# EAGLE library part 610018243021 (library Wuerth_Elektronik_eiCan_Pin_&_Socked_Headers_v1.3)
WR-PHD 2.54mm SMT Dual Socket Header Bottom Entry, 18 Pins
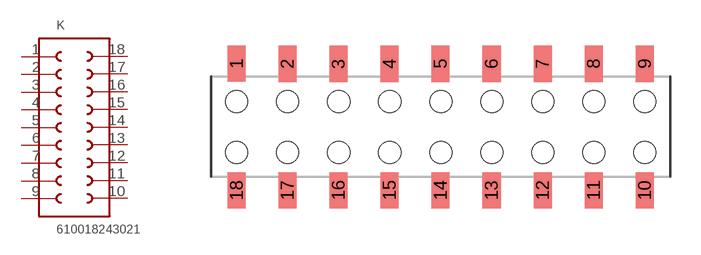
[diagram p223: symbol with the pads of 610018243021; footprint 610018243021]

Designator prefix K

## 610018243021  [610018243021]
1  1  pas
2  2  pas
3  3  pas
4  4  pas
5  5  pas
6  6  pas
7  7  pas
8  8  pas
9  9  pas
10  10  pas
11  11  pas
12  12  pas
13  13  pas
14  14  pas
15  15  pas
16  16  pas
17  17  pas
18  18  pas

## Footprint 610018243021 (pad centres in mm)
WR-PHD 2.54mm SMT Dual Socket Header Bottom Entry, 18 Pins
smd 0.9 x 1.8: 1 -11.43,3.15; 2 -8.9,3.14; 3 -6.36,3.14; 4 -3.82,3.14; 5 -1.28,3.14; 6 1.26,3.14; 7 3.8,3.14; 8 6.34,3.14; 9 8.88,3.14; 10 8.88,-3.16; 11 6.34,-3.16; 12 3.8,-3.16; 13 1.26,-3.16; 14 -1.28,-3.16; 15 -3.82,-3.16; 16 -6.36,-3.16; 17 -8.9,-3.16; 18 -11.43,-3.17
hole 1.1 at -11.43,1.27
hole 1.1 at -8.89,1.27
hole 1.1 at -8.89,-1.27
hole 1.1 at -11.43,-1.27
hole 1.1 at -6.35,1.27
hole 1.1 at -6.35,-1.27
hole 1.1 at -3.81,1.27
hole 1.1 at -3.81,-1.27
hole 1.1 at -1.27,1.27
hole 1.1 at -1.27,-1.27
hole 1.1 at 1.27,1.27
hole 1.1 at 1.27,-1.27
hole 1.1 at 3.81,1.27
hole 1.1 at 3.81,-1.27
hole 1.1 at 6.35,1.27
hole 1.1 at 6.35,-1.27
hole 1.1 at 8.89,1.27
hole 1.1 at 8.89,-1.27